# Altium integrated library GY-521.IntLib: 1 symbol
Pins are listed as number, name and electrical type; pins without a type are passive.

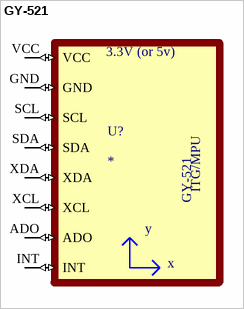
[diagram p0: symbol GY-521]

## GY-521
designator U?
Triple Axis Accelerometer Gyro Breakout; MP: GY-521; MF: GODREAM FORDREAM CO., LIMITED; Price: None; SnapEDA_Link: https://www.snapeda.com/parts/GY-521/GODREAM+FORDREAM+CO.%252C+LIMITED/view-part/?ref=snap; Package: Package; Availability: Not in stock; Check_prices: https://www.snapeda.com/parts/GY-521/GODREAM+FORDREAM+CO.%252C+LIMITED/view-part/?ref=eda; Value: *
footprint GY-521
pins: ADO (io), GND (io), INT (io), SCL (io), SDA (io), VCC (io), XCL (io), XDA (io)
text: 3.3V (or 5v); ITG/MPU; y; x